# EAGLE library part WE-RJ45_74991104402 (library Wurth_Signal & Communications_WE-RJ45_LAN)
WE-RJ45 LAN Transformer Characteristics RJ45 Connector with integrated transformer / common mode choke Power over Ethernet up to 50 Watt and speeds up to 10 Gbit/s Available in SMD, THT and THT with USB Compliant with standards: IEEE 802.3u, IEEE 802.3ab, IEEE 802.3af, IEEE 802.3at, IEEE 802.3an and upcoming IEE 802.3bt Applications Suitable for industrial temperatures from –40 °C up to +85 °C Compatible to Industrial Ethernet systems like EtherCAT or Profinet Compliant with most IC’s for Ethernet applications such as Microchip, Texas Instruments, Broadcom, Linear Technology Hubs, Routers, Switches, IP cameras, IoT applications <https://www.we-online.com/components/media/o35731v209%20Family-WE-RJ45LAN-7499xxxxxx.jpg> Details see: www.we-online.com/components/products/WE-LAN-RJ45 <www.we-online.com/catalog/WE-LAN-RJ45/?utm_source=eagle_model&utm_medium=description_link&utm_campaign=eisos_eagle> Created by Ella Wu 2020-10-27 2020 (C) Wurth Elektronik
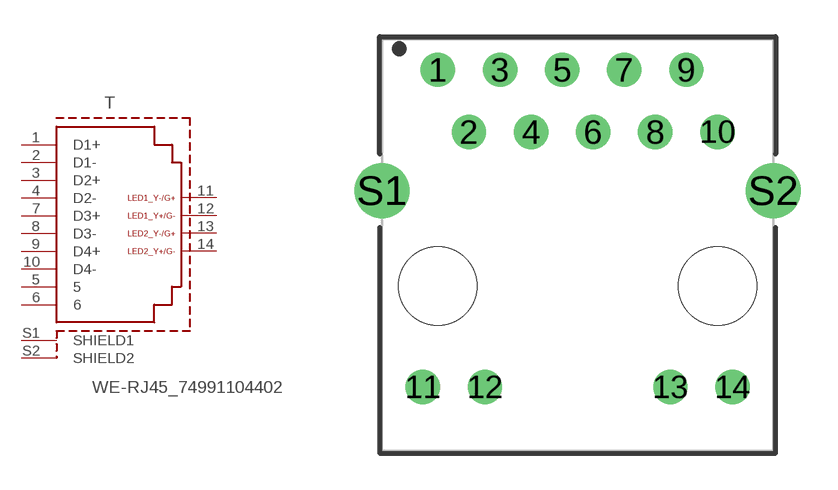
[diagram p47: symbol with the pads of 74991104402; footprint 74991104402]

Designator prefix T

## WE-RJ45_74991104402 (DATA-RATE: 1000 Base-T; DATASHEET-URL: https://www.we-online.com/redexpert/spec/74991104402?ae; LED: yellow/green-yellow/green; MOUNT: THT; PART-NUMBER: 74991104402; POE: non-PoE; PORTS: 1; USB: No; VALUE: 74991104402)  [74991104402]
1  D1+  pas
2  D1-  pas
3  D2+  pas
4  D2-  pas
5  5  pas
6  6  pas
7  D3+  pas
8  D3-  pas
9  D4+  pas
10  D4-  pas
11  LED1_Y-/G+  pas
12  LED1_Y+/G-  pas
13  LED2_Y-/G+  pas
14  LED2_Y+/G-  pas
S1  SHIELD1  pas
S2  SHIELD2  pas

## Footprint 74991104402 (pad centres in mm)
WE-RJ45 LAN Transformer 1000 Base-T
drill 0.9: 1 -5.715,8.84; 2 -4.445,6.3; 3 -3.175,8.84; 4 -1.905,6.3; 5 -0.635,8.84; 6 0.635,6.3; 7 1.905,8.84; 8 3.175,6.3; 9 4.445,8.84; 10 5.715,6.3; 11 -6.33,-4.13; 12 -3.79,-4.13; 13 3.79,-4.13; 14 6.33,-4.13
drill 1.5: S1 -8,3.9; S2 8,3.9
hole 3.2 at -5.72,0
hole 3.2 at 5.72,0